# Altium schematic symbol library TRAD.Schlib: 1 symbol
Pins are listed as number, name and electrical type; pins without a type are passive.

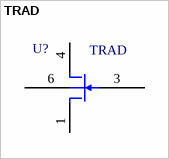
[diagram p0: symbol TRAD]

## TRAD
designator U?
Назначение: Датчик накопленной радиации; Наименование: TRAD
footprint TO5-6
pins: 1 D, 3 G, 4 S, 6 sub